# EAGLE library part 6N138 (library opto)
6N138: Low input current Darlington optocoupler
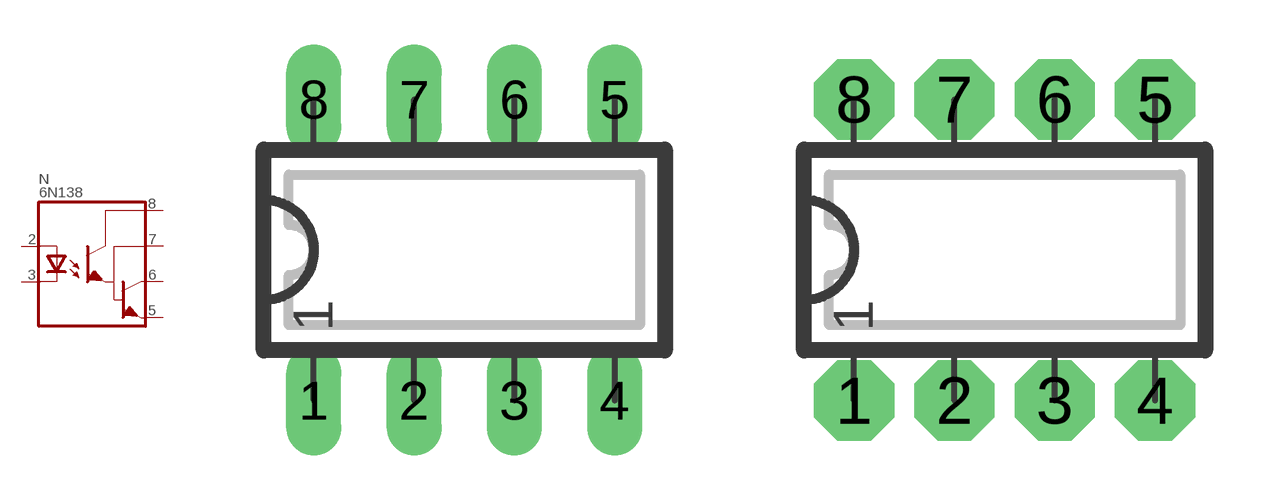
[diagram p11: symbol with the pads of DIP08L; footprints DIP08L, DIP08N]

Designator prefix N

## 6N138  [DIP08L]
2  DA  pas
3  DC  pas
5  TE
6  TC
7  TB
8  V+  pwr

## 6N138L  [DIP08L]
Pads as for DIP08L

## 6N138N  [DIP08N]
Pads as for DIP08L

## 6N138R  [DIP08R]
Pads as for DIP08L

## Footprint DIP08L (pad centres in mm)
DIP-8, long pads Standard IC package, 8 pins
drill 0.813 pad 1.397 long: 1 0,0; 2 2.54,0; 3 5.08,0; 4 7.62,0; 5 7.62,7.62; 6 5.08,7.62; 7 2.54,7.62; 8 0,7.62

## Footprint DIP08N (pad centres in mm)
DIP-8 Standard IC package, 8 pins
drill 0.813 pad 2.032 octagon: 1 0,0; 2 2.54,0; 3 5.08,0; 4 7.62,0; 5 7.62,7.62; 6 5.08,7.62; 7 2.54,7.62; 8 0,7.62

## Footprint DIP08R (pad centres in mm)
DIP-8, reduced pads Standard IC package, 8 pins
drill 0.813 pad 1.397 square: 1 0,0; 2 2.54,0; 3 5.08,0; 4 7.62,0; 5 7.62,7.62; 6 5.08,7.62; 7 2.54,7.62; 8 0,7.62